# Altium schematic symbol library PowerLib.SchLib: 12 symbols
Pins are listed as number, name and electrical type; pins without a type are passive.

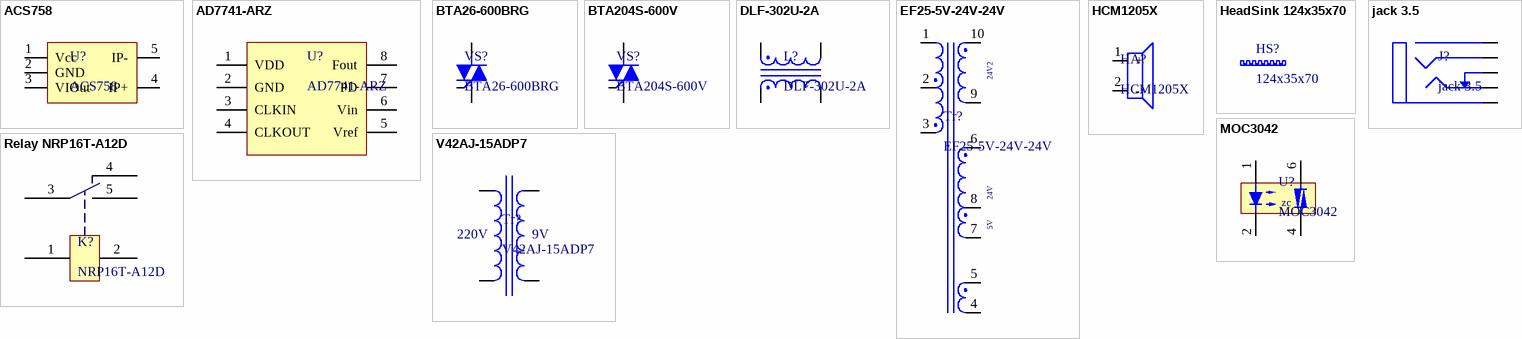
[diagram p0: symbols ACS758 to V42AJ-15ADP7]

## ACS758
designator U?
footprint CB Package
pins: 1 Vcc, 2 GND, 3 VIOut, 4 IP+, 5 IP-

## AD7741-ARZ
designator U?
footprint SOIC8 8S1_M (SOIC, 8-Leads, Body 4.9x3.9mm, Pitch 1.27mm, IPC Low Density)
pins: 1 VDD, 2 GND, 3 CLKIN, 4 CLKOUT, 5 Vref, 6 Vin, 7 PD, 8 Fout

## BTA26-600BRG
designator VS?
footprint TOP3-h34mm
pins: 1 A1, 2 A2, 3 G (in)

## BTA204S-600V
designator VS?
footprint TO-252-3L (DPAK) (DPAK TO-252, 2.28mm pitch; 2 pin, 9.7mm L X 6.7mm W X 2.40mm H body)
pins: 1 A1, 2 A2, 3 G (in)

## DLF-302U-2A
designator L?
footprint DLF-302U-2A
pins: 1, 2, 3, 4

## EF25-5V-24V-24V
designator Tr?
footprint SP-EF25
pins: 1, 2, 3, 4, 5, 6, 7, 8, 9, 10
text: 24V2; 24V; 5V

## HCM1205X
designator HA?
footprint HCM1205X
pins: 1 +, 2 -

## HeadSink 124x35x70
designator HS?, comment 124x35x70
INDEL A5724/7; Price: 5
footprint HeadSink 124x35x70

## jack 3.5
designator J?
footprint Jak-Ph St 6x14
pins: 1 G1, 2 G, 3, 4, 5

## MOC3042
designator U?
footprint DIL6-300b
pins: 1, 2, 4, 6
text: zc

## Relay NRP16T-A12D
designator K?, comment NRP16T-A12D
footprint NRP16T (NRP16T Relay series foot print)
pins: 1, 2, 3, 4, 5

## V42AJ-15ADP7
designator Tr?
footprint TR220-6W
pins: 1, 5, 7, 9
text: 220V; 9V